# EAGLE library part DS03 (library 0SWITCH_DIL)
DIL/CODE SWITCH
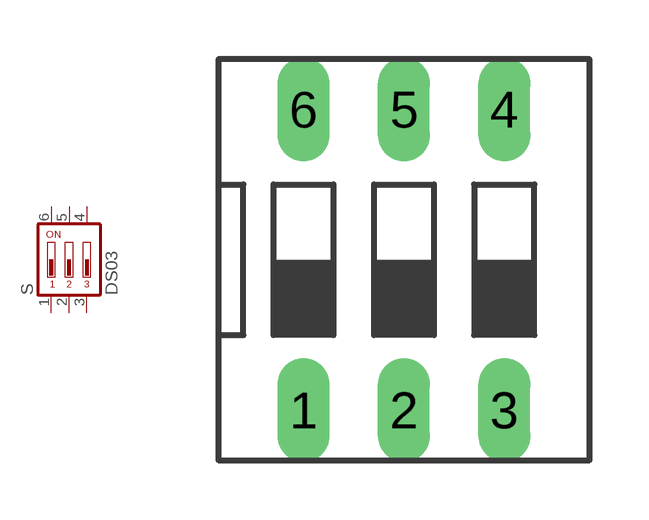
[diagram p0: symbol with the pads of DS-03; footprint DS-03]

Designator prefix S

## DS03  [DS-03]
1  1  pas
2  2  pas
3  3  pas
4  4  pas
5  5  pas
6  6  pas

## Footprint DS-03 (pad centres in mm)
DIL/CODE SWITCH Mors distributor Buerklin, 17G552
drill 0.813 long: 1 -2.54,-3.81; 2 0,-3.81; 3 2.54,-3.81; 4 2.54,3.81; 5 0,3.81; 6 -2.54,3.81